# Altium footprint library AdcPmod.PcbLib: 18 footprints (part 1 of 2)
Each footprint in its own frame and in the unit in brackets; x right, y up, seen from the top. Pads: shape width x height; smd on the part's side, far side on the other; paste and mask are expansions set on the pad; w line width, h text height; cw(c..) or ccw(c..) is an arc to the next point about the centre after c.
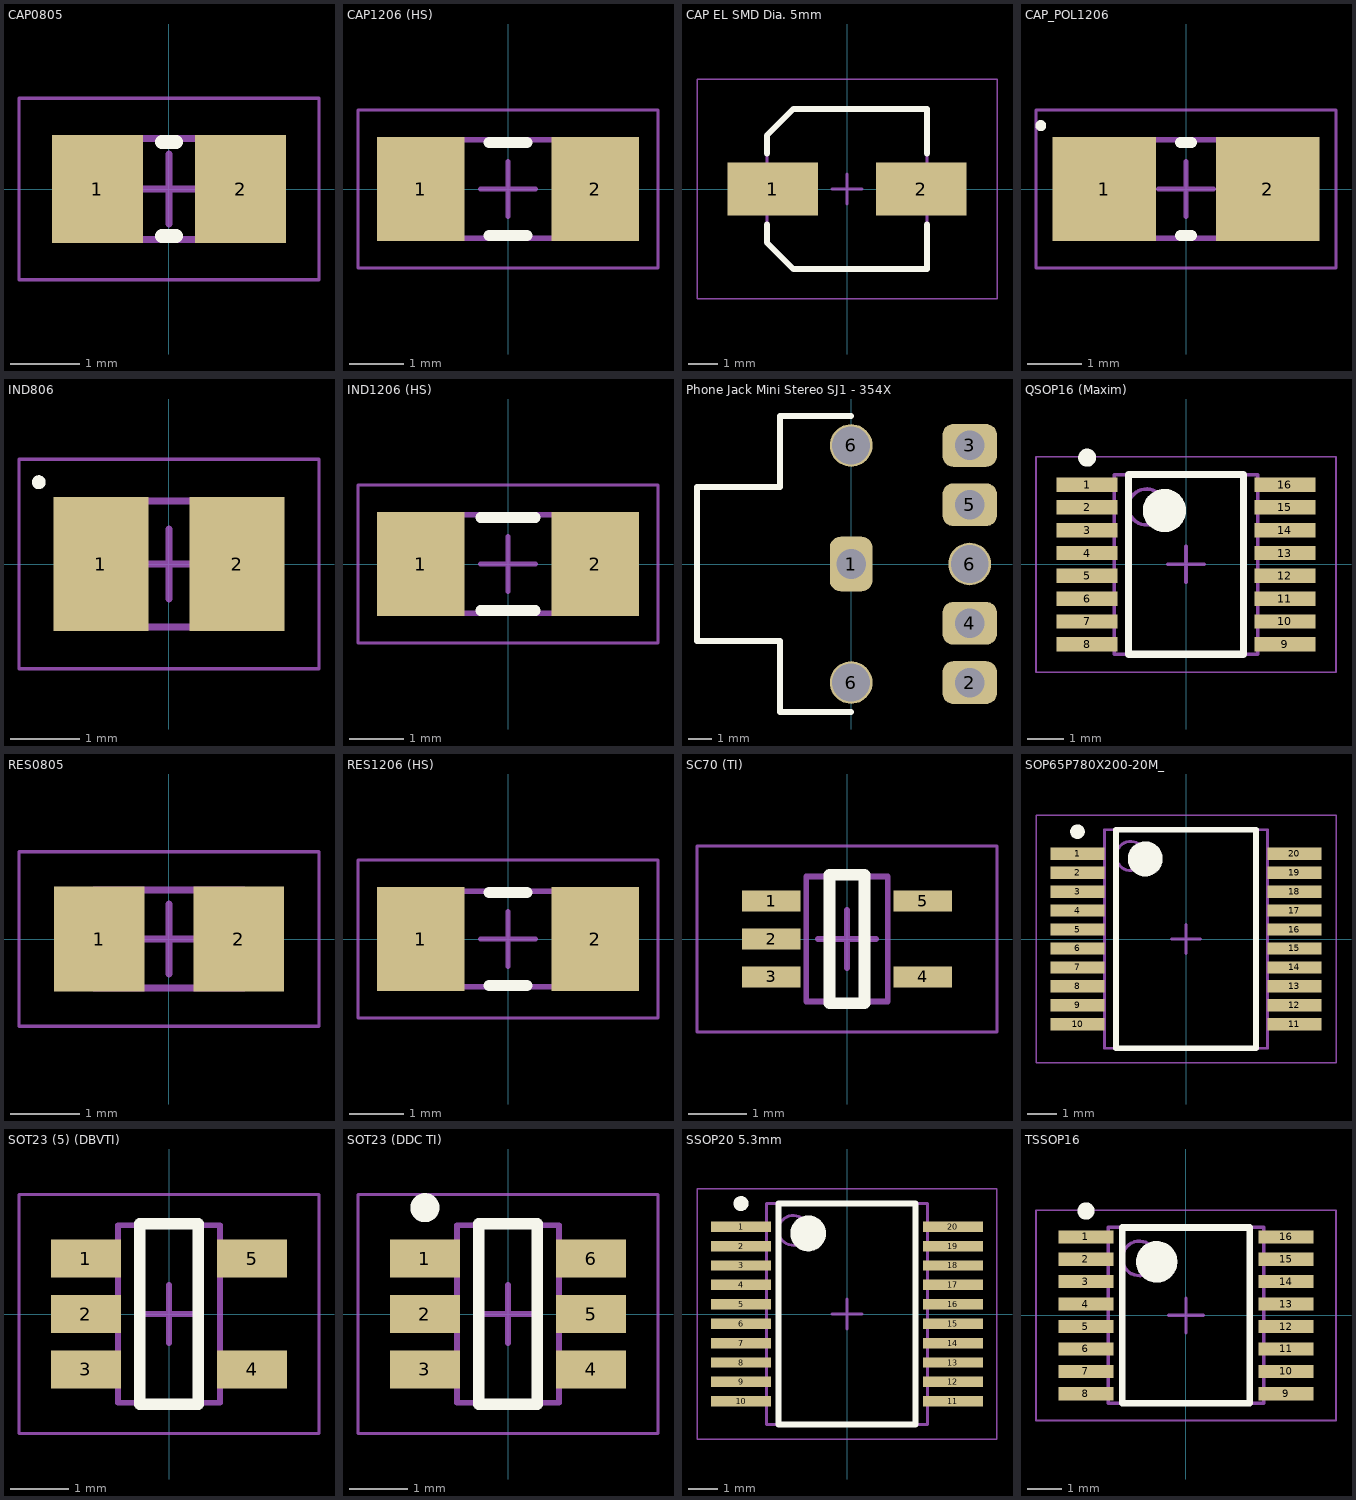
[diagram p0: the footprints below, top view; thin cyan lines are the x and y axes]

## CAP0805 [mm] "Chip Capacitor, 2-Leads, Body 2,00x1,25mm, IPC Low Density"
height 1.5
pads (2):
  rect 1.3x1.55 smd: 1(-1.025,0) 2(1.025,0)
Top Overlay:
  lines w0.2: -0.1,-0.675 0.1,-0.675 ; -0.1,0.675 0.1,0.675
Mechanical 13:
  lines w0.1: -1.1,-0.725 -1.1,0.725 1.1,0.725 1.1,-0.725 -1.1,-0.725
Mechanical 15:
  lines w0.05: -2.15,-1.3 -2.15,1.3 2.15,1.3 2.15,-1.3 -2.15,-1.3
  lines w0.1: -0.5,0 0.5,0 ; 0,-0.5 0,0.5
3D body: height 1.5, standoff 0, extent -0.6,-0.725 0.6,0.725
3D body: height 1.5, standoff 0, extent -1.1,-0.725 -0.6,0.725
3D body: height 1.5, standoff 0, extent 0.6,-0.725 1.1,0.725

## CAP1206 (HS) [mm] "Chip Capacitor, 2-Leads, Body 3,20x1,60mm, IPC Low Density"
height 2
pads (2):
  rect 1.6x1.9 smd: 1(-1.6,0) 2(1.6,0)
Top Overlay:
  lines w0.2: -0.35,-0.85 0.35,-0.85 ; -0.35,0.85 0.35,0.85
Mechanical 13:
  lines w0.1: -1.7,-0.9 -1.7,0.9 1.7,0.9 1.7,-0.9 -1.7,-0.9
Mechanical 15:
  lines w0.05: -2.75,-1.45 -2.75,1.45 2.75,1.45 2.75,-1.45 -2.75,-1.45
  lines w0.1: -0.5,0 0.5,0 ; 0,-0.5 0,0.5
3D body: height 2, standoff 0, extent -1.2,-0.9 1.2,0.9
3D body: height 2, standoff 0, extent -1.7,-0.9 -1.2,0.9
3D body: height 2, standoff 0, extent 1.2,-0.9 1.7,0.9

## CAP EL SMD Dia. 5mm [mm] "Aluminum Electrolytic Capacitor, Body 5,30x5,30x5,80mm, IPC Low Density"
height 5.8
pads (2):
  rect 3.05x1.8 smd: 1(-2.5,0) 2(2.5,0)
Top Overlay:
  lines w0.2: -2.7,-1.2 -2.7,-1.8 -1.8,-2.7 2.7,-2.7 2.7,-1.2 ; -2.7,1.2 -2.7,1.8 -1.8,2.7 2.7,2.7 2.7,1.2
Mechanical 13:
  lines w0.1: -2.7,-1.8 -1.8,-2.7 2.7,-2.7 2.7,2.7 -1.8,2.7 -2.7,1.8 -2.7,-1.8
Mechanical 15:
  lines w0.05: -5.05,-3.7 -5.05,3.7 5.05,3.7 5.05,-3.7 -5.05,-3.7
  lines w0.1: -0.5,0 0.5,0 ; 0,-0.5 0,0.5
3D body: height 1.94, standoff 0, extent -2.7,-2.7 2.7,2.7
3D body: height 5.8, standoff 0, extent -2.75,-2.75 2.75,2.748

## CAP_POL1206 [mm] "Chip Tantalum Capacitor, 2-Leads, Body 3,20x1,60mm, IPC Low Density"
height 2
pads (2):
  rect 1.9x1.9 smd: 1(-1.5,0) 2(1.5,0)
Top Overlay:
  circle w0.1: c-2.662,1.162 r0.05
  lines w0.2: -0.1,-0.85 0.1,-0.85 ; -0.1,0.85 0.1,0.85
Mechanical 13:
  lines w0.1: -1.7,-0.9 1.7,-0.9 1.7,0.9 -1.7,0.9 -1.7,-0.9
Mechanical 15:
  lines w0.05: -2.75,-1.45 2.75,-1.45 2.75,1.45 -2.75,1.45 -2.75,-1.45
  lines w0.1: -0.5,0 0.5,0 ; 0,-0.5 0,0.5
3D body: height 2, standoff 0, extent 0.9,-0.9 1.7,0.9
3D body: height 2, standoff 0, extent -1.7,-0.9 -0.9,0.9
3D body: height 2, standoff 0, extent -0.9,-0.9 0.9,0.9

## IND806 [mm] "Chip Inductor, 2-Leads, Body 2,00x1,60mm, IPC Low Density"
height 1.5
pads (2):
  rect 1.36x1.92 smd: 1(-0.975,0) 2(0.975,0)
Top Overlay:
  circle w0.1: c-1.867,1.172 r0.05
Mechanical 13:
  lines w0.1: -1.1,-0.9 -1.1,0.9 1.1,0.9 1.1,-0.9 -1.1,-0.9
Mechanical 15:
  lines w0.05: -2.15,-1.5 -2.15,1.5 2.15,1.5 2.15,-1.5 -2.15,-1.5
  lines w0.1: -0.5,0 0.5,0 ; 0,-0.5 0,0.5
3D body: height 1.5, standoff 0, extent -0.6,-0.9 0.6,0.9
3D body: height 1.5, standoff 0, extent -1.1,-0.9 -0.6,0.9
3D body: height 1.5, standoff 0, extent 0.6,-0.9 1.1,0.9

## IND1206 (HS) [mm] "Chip Inductor, 2-Leads, Body 3,20x1,60mm, IPC Low Density"
height 2
pads (2):
  rect 1.6x1.9 smd: 1(-1.6,0) 2(1.6,0)
Top Overlay:
  lines w0.2: -0.5,-0.85 0.5,-0.85 ; -0.5,0.85 0.5,0.85
Mechanical 13:
  lines w0.1: -1.7,-0.9 -1.7,0.9 1.7,0.9 1.7,-0.9 -1.7,-0.9
Mechanical 15:
  lines w0.05: -2.75,-1.45 -2.75,1.45 2.75,1.45 2.75,-1.45 -2.75,-1.45
  lines w0.1: -0.5,0 0.5,0 ; 0,-0.5 0,0.5
3D body: height 2, standoff 0, extent -1.2,-0.9 1.2,0.9
3D body: height 2, standoff 0, extent -1.7,-0.9 -1.2,0.9
3D body: height 2, standoff 0, extent 1.2,-0.9 1.7,0.9

## Phone Jack Mini Stereo SJ1 - 354X [mm]
height 6
pads (8):
  rrect50% 1.8x2.3 hole 1.25: 1(0,0)
  rrect50% 2.3x1.8 hole 1.25: 2(5,-5) 3(5,5) 4(5,-2.5) 5(5,2.5)
  round 1.8 hole 1.6: 6(0,-5) 6(0,5) 6(5,0)
Top Overlay:
  lines w0.254: 0,-6.25 -3,-6.25 -3,-3.25 ; 0,6.25 -3,6.25 -3,3.25 -6.5,3.25 -6.5,-3.25 -3,-3.25 ; -3,-3.25 -3,-3.25
3D body: height 9, standoff -6, extent -6.525,-6.125 8.475,6.075

## QSOP16 (Maxim) [mm] "SOP, 16-Leads, Body 4,89x3,90mm, Pitch 0,64mm, IPC Low Density"
height 1.75
pads (16):
  rect 1.7x0.4 smd: 1(-2.75,2.222) 2(-2.75,1.587) 3(-2.75,0.953) 4(-2.75,0.318) 5(-2.75,-0.318) 6(-2.75,-0.953) 7(-2.75,-1.587) 8(-2.75,-2.222) 9(2.75,-2.222) 10(2.75,-1.587) 11(2.75,-0.953) 12(2.75,-0.318) 13(2.75,0.318) 14(2.75,0.953) 15(2.75,1.587) 16(2.75,2.222)
Top Overlay:
  circle w0.6: c-0.6,1.5 r0.3
  circle w0.25: c-2.75,2.973 r0.125
  lines w0.2: -1.6,-2.5 1.6,-2.5 1.6,2.5 -1.6,2.5 -1.6,-2.5
Mechanical 13:
  circle w0.1: c-1.1,1.6 r0.5
  lines w0.1: -2,-2.5 2,-2.5 2,2.5 -2,2.5 -2,-2.5
Mechanical 15:
  lines w0.05: -4.175,-3 4.175,-3 4.175,3 -4.175,3 -4.175,-3
  lines w0.1: -0.5,0 0.5,0 ; 0,-0.5 0,0.5
3D body: height 1.75, standoff 0.1, extent -2,-2.5 2,2.5

## RES0805 [mm] "Chip Resistor, 2-Leads, Body 2,00x1,25mm, IPC Low Density"
height 1.5
pads (2):
  rect 1.3x1.5 smd: 1(-1,0) 2(1,0)
Mechanical 13:
  lines w0.1: -1.075,-0.7 1.075,-0.7 1.075,0.7 -1.075,0.7 -1.075,-0.7
Mechanical 15:
  lines w0.05: -2.15,-1.25 2.15,-1.25 2.15,1.25 -2.15,1.25 -2.15,-1.25
  lines w0.1: -0.5,0 0.5,0 ; 0,-0.5 0,0.5
3D body: height 1.5, standoff 0, extent 0.675,-0.7 1.075,0.7
3D body: height 1.5, standoff 0, extent -1.075,-0.7 -0.675,0.7
3D body: height 1.5, standoff 0, extent -0.675,-0.7 0.675,0.7

## RES1206 (HS) [mm] "Chip Resistor, 2-Leads, Body 3,20x1,60mm, IPC Low Density"
height 1.5
pads (2):
  rect 1.6x1.9 smd: 1(-1.6,0) 2(1.6,0)
Top Overlay:
  lines w0.2: -0.35,-0.85 0.35,-0.85 ; -0.35,0.85 0.35,0.85
Mechanical 13:
  lines w0.1: -1.7,-0.875 -1.7,0.875 1.7,0.875 1.7,-0.875 -1.7,-0.875
Mechanical 15:
  lines w0.05: -2.75,-1.45 -2.75,1.45 2.75,1.45 2.75,-1.45 -2.75,-1.45
  lines w0.1: -0.5,0 0.5,0 ; 0,-0.5 0,0.5
3D body: height 1.5, standoff 0, extent -1.2,-0.875 1.2,0.875
3D body: height 1.5, standoff 0, extent -1.7,-0.875 -1.2,0.875
3D body: height 1.5, standoff 0, extent 1.2,-0.875 1.7,0.875

## SC70 (TI) [mm] "SC70, 5-Leads, Body 2,00x2,80mm, Pitch 0,65mm, IPC Low Density"
height 1.1
pads (5):
  rect 1x0.36 smd: 1(-1.3,0.65) 2(-1.3,0) 3(-1.3,-0.65) 4(1.3,-0.65) 5(1.3,0.65)
Top Overlay:
  lines w0.2: -0.3,-1.1 -0.3,1.1 0.3,1.1 0.3,-1.1 -0.3,-1.1
Mechanical 13:
  lines w0.1: -0.7,-1.075 0.7,-1.075 0.7,1.075 -0.7,1.075 -0.7,-1.075
Mechanical 15:
  lines w0.05: -2.575,-1.6 2.575,-1.6 2.575,1.6 -2.575,1.6 -2.575,-1.6
  lines w0.1: -0.5,0 0.5,0 ; 0,-0.5 0,0.5
3D body: height 1.1, standoff 0.01, extent -0.7,-1.075 0.7,1.075

## SOP65P780X200-20M_ [mm] "SOP, 20-Leads, Body 7,20x5,30mm, Pitch 0,65mm, IPC Low Density"
height 2
pads (20):
  rect 1.85x0.42 smd: 1(-3.725,2.925) 2(-3.725,2.275) 3(-3.725,1.625) 4(-3.725,0.975) 5(-3.725,0.325) 6(-3.725,-0.325) 7(-3.725,-0.975) 8(-3.725,-1.625) 9(-3.725,-2.275) 10(-3.725,-2.925) 11(3.725,-2.925) 12(3.725,-2.275) 13(3.725,-1.625) 14(3.725,-0.975) 15(3.725,-0.325) 16(3.725,0.325) 17(3.725,0.975) 18(3.725,1.625) 19(3.725,2.275) 20(3.725,2.925)
Top Overlay:
  circle w0.25: c-3.725,3.685 r0.125
  circle w0.6: c-1.4,2.75 r0.3
  lines w0.2: -2.4,-3.75 -2.4,3.75 2.4,3.75 2.4,-3.75 -2.4,-3.75
Mechanical 13:
  circle w0.1: c-1.9,2.85 r0.5
  lines w0.1: -2.8,-3.75 -2.8,3.75 2.8,3.75 2.8,-3.75 -2.8,-3.75
Mechanical 15:
  lines w0.05: -5.15,-4.25 -5.15,4.25 5.15,4.25 5.15,-4.25 -5.15,-4.25
  lines w0.1: -0.5,0 0.5,0 ; 0,-0.5 0,0.5
3D body: height 2, standoff 0.05, extent -2.8,-3.75 2.8,3.75

## SOT23 (5) (DBVTI) [mm] "SOT23, 5-Leads, Body 2,90x2,80mm, Pitch 0,95mm, IPC Low Density"
height 1.1
pads (5):
  rect 1.2x0.65 smd: 1(-1.425,0.95) 2(-1.425,0) 3(-1.425,-0.95) 4(1.425,-0.95) 5(1.425,0.95)
Top Overlay:
  lines w0.2: -0.5,-1.55 0.5,-1.55 0.5,1.55 -0.5,1.55 -0.5,-1.55
Mechanical 13:
  lines w0.1: -0.875,-1.525 -0.875,1.525 0.875,1.525 0.875,-1.525 -0.875,-1.525
Mechanical 15:
  lines w0.05: -2.575,-2.05 -2.575,2.05 2.575,2.05 2.575,-2.05 -2.575,-2.05
  lines w0.1: -0.5,0 0.5,0 ; 0,-0.5 0,0.5
3D body: height 1.1, standoff 0.01, extent -0.875,-1.525 0.875,1.525

## SOT23 (DDC TI) [mm] "SOT23, 6-Leads, Body 2,90x2,80mm, Pitch 0,95mm, IPC Low Density"
height 1.1
pads (6):
  rect 1.2x0.65 smd: 1(-1.425,0.95) 2(-1.425,0) 3(-1.425,-0.95) 4(1.425,-0.95) 5(1.425,0) 6(1.425,0.95)
Top Overlay:
  circle w0.25: c-1.425,1.825 r0.125
  lines w0.2: -0.5,-1.55 -0.5,1.55 0.5,1.55 0.5,-1.55 -0.5,-1.55
Mechanical 13:
  lines w0.1: -0.875,-1.525 0.875,-1.525 0.875,1.525 -0.875,1.525 -0.875,-1.525
Mechanical 15:
  lines w0.05: -2.575,-2.05 2.575,-2.05 2.575,2.05 -2.575,2.05 -2.575,-2.05
  lines w0.1: -0.5,0 0.5,0 ; 0,-0.5 0,0.5
3D body: height 1.1, standoff 0.01, extent -0.875,-1.525 0.875,1.525

## SSOP20 5.3mm [mm] "SOP, 20-Leads, Body 7,20x5,30mm, Pitch 0,65mm, IPC Low Density"
height 2
pads (20):
  rect 2x0.35 smd mask+0.076: 1(-3.55,2.925) 2(-3.55,2.275) 3(-3.55,1.625) 4(-3.55,0.975) 5(-3.55,0.325) 6(-3.55,-0.325) 7(-3.55,-0.975) 8(-3.55,-1.625) 9(-3.55,-2.275) 10(-3.55,-2.925) 11(3.55,-2.925) 12(3.55,-2.275) 13(3.55,-1.625) 14(3.55,-0.975) 15(3.55,-0.325) 16(3.55,0.325) 17(3.55,0.975) 18(3.55,1.625) 19(3.55,2.275) 20(3.55,2.925)
Top Overlay:
  circle w0.25: c-3.55,3.7 r0.125
  circle w0.6: c-1.3,2.7 r0.3
  lines w0.2: -2.3,-3.7 -2.3,3.7 2.3,3.7 2.3,-3.7 -2.3,-3.7
Mechanical 13:
  circle w0.1: c-1.8,2.8 r0.5
  lines w0.1: -2.7,-3.7 -2.7,3.7 2.7,3.7 2.7,-3.7 -2.7,-3.7
Mechanical 15:
  lines w0.05: -5.025,-4.2 -5.025,4.2 5.025,4.2 5.025,-4.2 -5.025,-4.2
  lines w0.1: -0.5,0 0.5,0 ; 0,-0.5 0,0.5
3D body: height 2, standoff 0.05, extent -2.7,-3.7 2.7,3.7

## TSSOP16 [mm] "SOP, 16-Leads, Body 5,00x4,40mm, Pitch 0,65mm, IPC Low Density"
height 2
pads (16):
  rect 1.6x0.38 smd: 1(-2.9,2.275) 2(-2.9,1.625) 3(-2.9,0.975) 4(-2.9,0.325) 5(-2.9,-0.325) 6(-2.9,-0.975) 7(-2.9,-1.625) 8(-2.9,-2.275) 9(2.9,-2.275) 10(2.9,-1.625) 11(2.9,-0.975) 12(2.9,-0.325) 13(2.9,0.325) 14(2.9,0.975) 15(2.9,1.625) 16(2.9,2.275)
Top Overlay:
  circle w0.25: c-2.9,3.025 r0.125
  circle w0.6: c-0.85,1.55 r0.3
  lines w0.2: -1.85,-2.55 -1.85,2.55 1.85,2.55 1.85,-2.55 -1.85,-2.55
Mechanical 13:
  circle w0.1: c-1.35,1.65 r0.5
  lines w0.1: -2.25,-2.55 -2.25,2.55 2.25,2.55 2.25,-2.55 -2.25,-2.55
Mechanical 15:
  lines w0.05: -4.35,-3.05 -4.35,3.05 4.35,3.05 4.35,-3.05 -4.35,-3.05
  lines w0.1: -0.5,0 0.5,0 ; 0,-0.5 0,0.5
3D body: height 2, standoff 0.05, extent -2.25,-2.55 2.25,2.55